# Altium schematic symbol library BVSRC.Schlib: 1 symbol
Pins are listed as number, name and electrical type; pins without a type are passive.

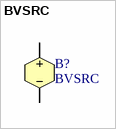
[diagram p0: symbol BVSRC]

## BVSRC
designator B?
Non-Linear Dependent Voltage Source
pins: 1, 2